# Altium schematic symbol library switch.SchLib: 1 symbol
Pins are listed as number, name and electrical type; pins without a type are passive.

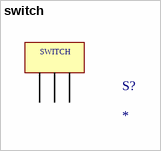
[diagram p0: symbol switch]

## switch
designator S?
footprint switch
pins: 0, 1, 2
text: SWITCH